# Altium schematic symbol library IC_Interface.SchLib: 8 symbols
Pins are listed as number, name and electrical type; pins without a type are passive.

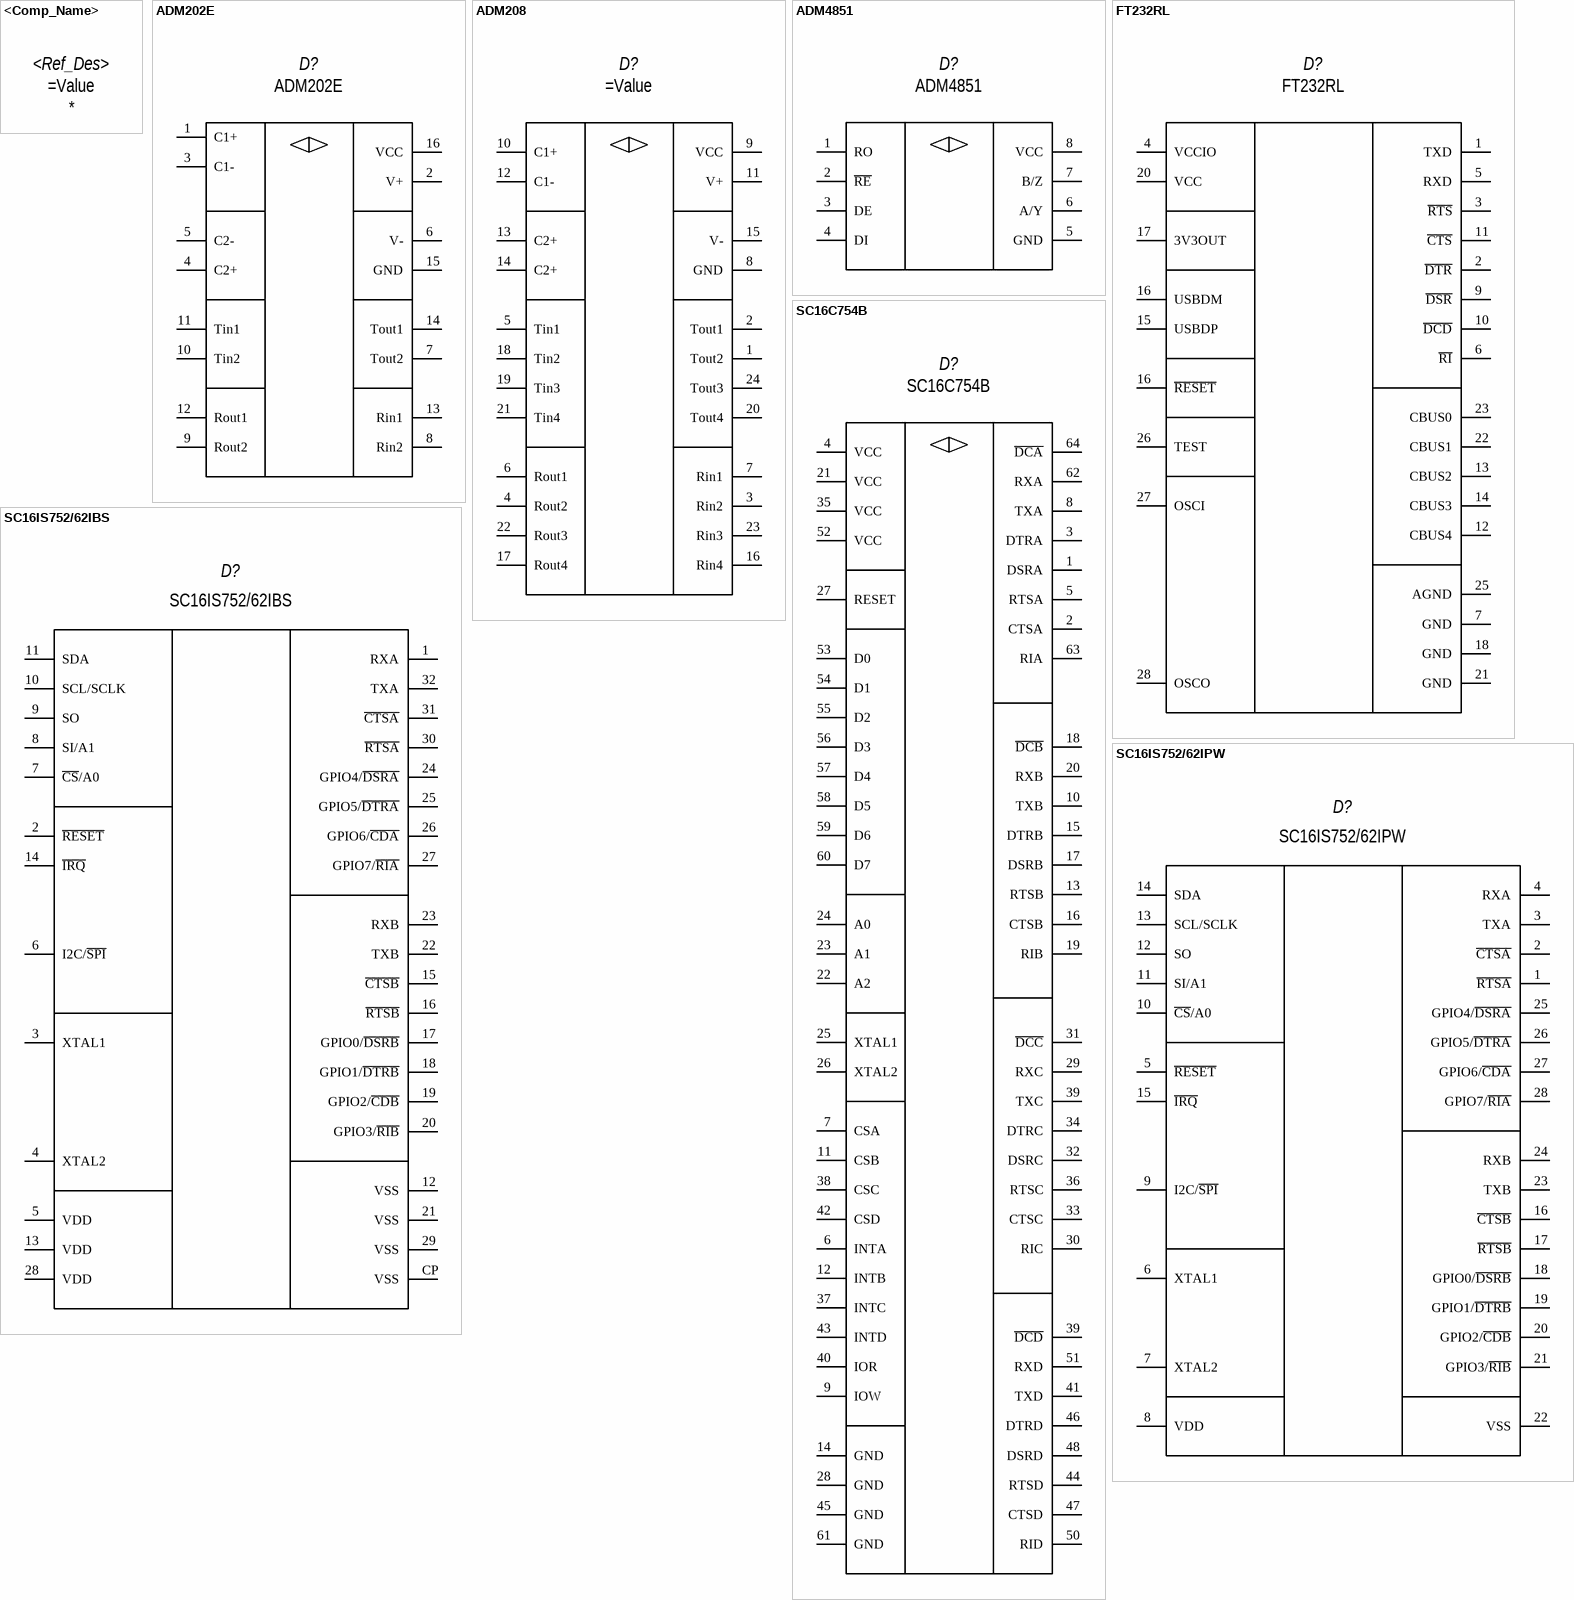
[diagram p0: symbols <Comp_Name> to SC16IS752/62IPW]

## <Comp_Name>
designator <Ref_Des>
<element_assignmen>; Manufacturer: *; HelpURL: *; Value: =Value

## ADM202E
designator D?  value ADM202E  (hidden comment: *)
TTL/CMOS to RS-232 level Converter; Manufacturer: *; HelpURL: *
pins: 1 C1+, 2 V+, 3 С1-, 4 С2+, 5 С2-, 6 V-, 7 Tout2, 8 Rin2, 9 Rout2, 10 Tin2, 11 Tin1, 12 Rout1, 13 Rin1, 14 Tout1, 15 GND, 16 VCC

## ADM208
designator D?  (value not drawn)
TTL/CMOS to RS-232 Converter; Manufacturer: *; HelpURL: *; Value: =Value
pins: 1 Tout2, 2 Tout1, 3 Rin2, 4 Rout2, 5 Tin1, 6 Rout1, 7 Rin1, 8 GND (power), 9 VCC (power), 10 C1+, 11 V+, 12 C1-, 13 C2+, 14 C2+, 15 V-, 16 Rin4, 17 Rout4, 18 Tin2, 19 Tin3, 20 Tout4, 21 Tin4, 22 Rout3, 23 Rin3, 24 Tout3

## ADM4851
designator D?  value ADM4851  (hidden comment: *)
TTL/CMOS to RS-422/RS-485 Converter; Manufacturer: *; HelpURL: *
footprint SOIC8 (MS-012-AA Package, 8 pins, Pitch 1.27mm (.050))
footprint MSOP8 (MO-187-AA Package, 8 pins, Pitch 0.65mm)
pins: 1 RO, 2 ~{RE}, 3 DE, 4 DI, 5 GND, 6 A/Y, 7 B/Z, 8 VCC

## FT232RL
designator D?  value FT232RL  (hidden comment: *)
USB to UART Converter; Manufacturer: FTDI; HelpURL: https://static.chipdip.ru/lib/222/DOC000222844.pdf
footprint SSOP28 (SSOP-28, Body 5.3mm (.209), 28 Lead, Pitch 0.65mm)
pins: 1 TXD, 2 ~{DTR}, 3 ~{RTS}, 4 VCCIO, 5 RXD, 6 ~{RI}, 7 GND, 9 ~{DSR}, 10 ~{DCD}, 11 ~{CTS}, 12 CBUS4, 13 CBUS2, 14 CBUS3, 15 USBDP, 16 USBDM, 16 ~{RESET}, 17 3V3OUT, 18 GND, 20 VCC, 21 GND, 22 CBUS1, 23 CBUS0, 25 AGND, 26 TEST, 27 OSCI, 28 OSCO

## SC16C754B
designator D?  value SC16C754B  (hidden comment: *)
Quad UART, 5Mbit/s max with 64-byte FIFOs; Manufacturer: *; HelpURL: *
pins: 1 DSRA, 2 CTSA, 3 DTRA, 4 VCC, 5 RTSA, 6 INTA, 7 CSA, 8 TXA, 9 IOW, 10 TXB, 11 CSB, 12 INTB, 13 RTSB, 14 GND, 15 DTRB, 16 CTSB, 17 DSRB, 18 ~{DCB}, 19 RIB, 20 RXB, 21 VCC, 22 A2, 23 A1, 24 A0, 25 XTAL1, 26 XTAL2, 27 RESET, 28 GND, 29 RXC, 30 RIC, 31 ~{DCC}, 32 DSRC, 33 CTSC, 34 DTRC, 35 VCC, 36 RTSC, 37 INTC, 38 CSC, 39 TXC, 39 ~{DCD}, 40 IOR, 41 TXD, 42 CSD, 43 INTD, 44 RTSD, 45 GND, 46 DTRD, 47 CTSD, 48 DSRD, 50 RID, 51 RXD, 52 VCC, 53 D0, 54 D1, 55 D2, 56 D3, 57 D4, 58 D5, 59 D6, 60 D7, 61 GND, 62 RXA, 63 RIA, 64 ~{DCA}

## SC16IS752/62IBS
designator D?, comment value SC16IS752/62IBS  (hidden comment: HVQFN32 Package)
Dual UART with I2C-bus/SPI interface, 64 bytes of transmit and receive FIFOs, IrDA SIR built-in support; Manufacturer: NXP; HelpURL: https://www.nxp.com/docs/en/data-sheet/SC16IS752_SC16IS762.pdf
footprint HVQFN32 (SOT617-1, 32 pin, Pitch 0.5mm)
pins: 1 RXA, 2 ~{RESET}, 3 XTAL1 (power), 4 XTAL2 (power), 5 VDD (power), 6 I2C/~{SPI}, 7 ~{CS}/A0, 8 SI/A1, 9 SO, 10 SCL/SCLK, 11 SDA, 12 VSS (power), 13 VDD (power), 14 ~{IRQ}, 15 ~{CTSB}, 16 ~{RTSB}, 17 GPIO0/~{DSRB}, 18 GPIO1/~{DTRB}, 19 GPIO2/~{CDB}, 20 GPIO3/~{RIB}, 21 VSS (power), 22 TXB, 23 RXB, 24 GPIO4/~{DSRA}, 25 GPIO5/~{DTRA}, 26 GPIO6/~{CDA}, 27 GPIO7/~{RIA}, 28 VDD (power), 29 VSS (power), 30 ~{RTSA}, 31 ~{CTSA}, 32 TXA, CP VSS (power)

## SC16IS752/62IPW
designator D?, comment value SC16IS752/62IPW  (hidden comment: TSSOP28 Package)
Dual UART with I2C-bus/SPI interface, 64 bytes of transmit and receive FIFOs, IrDA SIR built-in support; Manufacturer: NXP; HelpURL: https://www.nxp.com/docs/en/data-sheet/SC16IS752_SC16IS762.pdf
footprint TSSOP28 (SOT361-1 Package, 28 pins, Pitch 0.65mm)
pins: 1 ~{RTSA}, 2 ~{CTSA}, 3 TXA, 4 RXA, 5 ~{RESET}, 6 XTAL1 (power), 7 XTAL2 (power), 8 VDD (power), 9 I2C/~{SPI}, 10 ~{CS}/A0, 11 SI/A1, 12 SO, 13 SCL/SCLK, 14 SDA, 15 ~{IRQ}, 16 ~{CTSB}, 17 ~{RTSB}, 18 GPIO0/~{DSRB}, 19 GPIO1/~{DTRB}, 20 GPIO2/~{CDB}, 21 GPIO3/~{RIB}, 22 VSS (power), 23 TXB, 24 RXB, 25 GPIO4/~{DSRA}, 26 GPIO5/~{DTRA}, 27 GPIO6/~{CDA}, 28 GPIO7/~{RIA}